# Altium schematic symbol library L7812CV.SchLib: 1 symbol
Pins are listed as number, name and electrical type; pins without a type are passive.

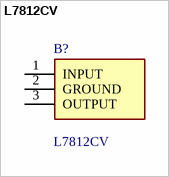
[diagram p0: symbol L7812CV]

## L7812CV
designator B?
TO220 voltage regulator,L7812CV 12V 1.5A STMicroelectronics L7812CV, Single Linear Voltage Regulator, 1.5A 12 V, 3-Pin TO-220; Geometry.Height: 4.6mm; Mouser Part Number: 511-L7812CV; Mouser Price/Stock: https://www.mouser.co.uk/ProductDetail/STMicroelectronics/L7812CV?qs=5Uvc6lfWVJzVGZQZmBynyg%3D%3D; Manufacturer_Name: STMicroelectronics; Manufacturer_Part_Number: L7812CV; Datasheet Link: https://www.st.com/resource/en/datasheet/l78.pdf
footprint TO255P460X1020X2008-3P
pins: 1 INPUT, 2 GROUND, 3 OUTPUT